# Altium schematic symbol library DAC.SchLib: 1 symbol
Pins are listed as number, name and electrical type; pins without a type are passive.

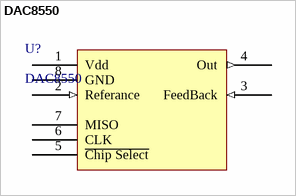
[diagram p0: symbol DAC8550]

## DAC8550
designator U?
16 bit DAC with optional built in gain; Supplier 1: Farnell; Supplier Part Number 1: 2323431
footprint TSOP65P490X110-8N (TSOP, 8-Leads, Body 3.00x3.00mm, Pitch 0.65mm, IPC Medium Density)
pins: 1 Vdd (power) "V+", 2 Referance (in) "Voltage Referance 2.7 to 5.5V", 3 FeedBack (in) "Feeback resistor for output amp", 4 Out (out) "Analogue output", 5 ~{Chip Select} "SPI", 6 CLK "SPI", 7 MISO "SPI", 8 GND (power) "Common / Ground"